# Altium footprint library TE_6-534998-2.PcbLib: 1 footprints
Each footprint in its own frame and in the unit in brackets; x right, y up, seen from the top. Pads: shape width x height; smd on the part's side, far side on the other; paste and mask are expansions set on the pad; w line width, h text height; cw(c..) or ccw(c..) is an arc to the next point about the centre after c.
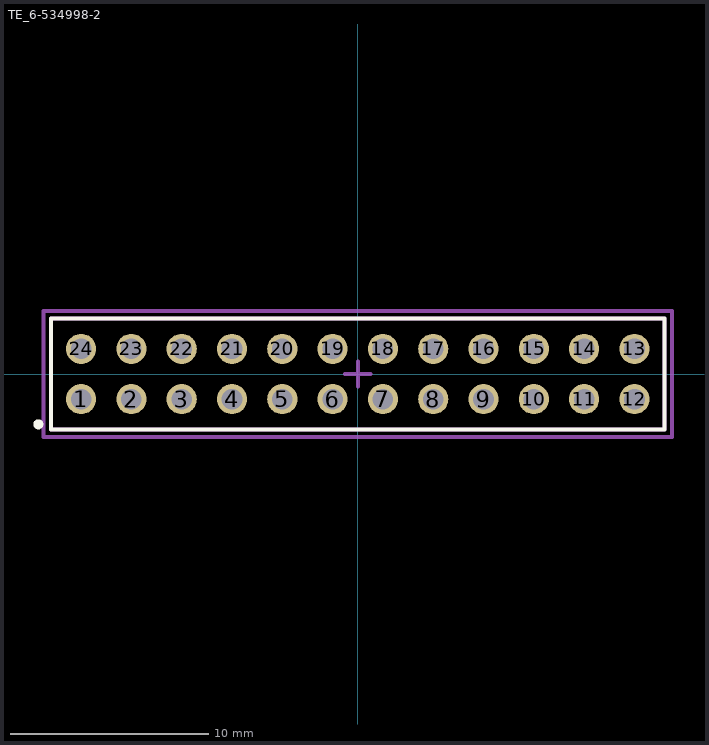
[diagram p0: the footprint, top view; thin cyan lines are the x and y axes]

## TE_6-534998-2 [mil]
pads (24):
  round 60 hole 41: 1(-550,-50) 2(-450,-50) 3(-350,-50) 4(-250,-50) 5(-150,-50) 6(-50,-50) 7(50,-50) 8(150,-50) 9(250,-50) 10(350,-50) 11(450,-50) 12(550,-50) 13(550,50) 14(450,50) 15(350,50) 16(250,50) 17(150,50) 18(50,50) 19(-50,50) 20(-150,50) 21(-250,50) 22(-350,50) 23(-450,50) 24(-550,50)
Top Overlay:
  circle w10: c-635,-100 r5
  lines w7.87: -610,-110 -610,110 610,110 610,-110 -610,-110
Mechanical 15:
  lines w7.87: -25,0 25,0 ; 0,-25 0,25 ; -625,-125 625,-125 625,125 -625,125 -625,-125
Mechanical 17:
  lines w7.87: -610,-110 610,-110 610,110 -610,110 -610,-110
  text ".Designator" at -580,-65 h60
Mechanical 19:
  lines w7.87: -610,-110 610,-110 610,110 -610,110 -610,-110
  text ".Comment" at -570,-60 h60
3D body: height 265, standoff -125, extent -600,-98.99 600,99.01